# EAGLE library part ADAFRUIT_BNO055 (library Devices)
Adafruit 9-DOF Absolute Orientation IMU Fusion Breakout - BNO055 <https://www.adafruit.com/product/2472#technical-details>
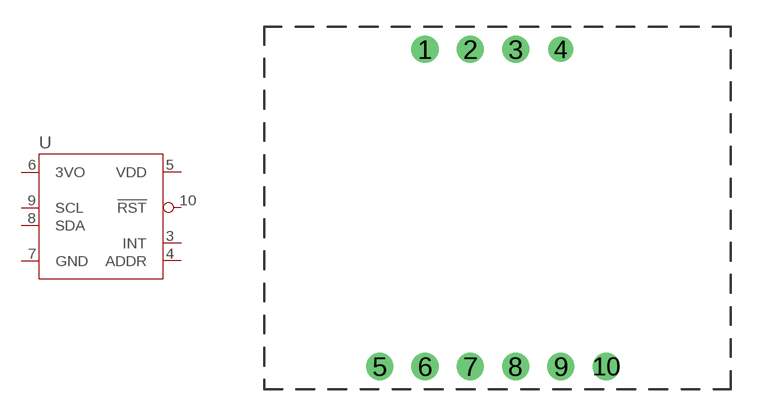
[diagram p2: symbol with the pads of ADAFRUIT_BNO055; footprint ADAFRUIT_BNO055]

Designator prefix U

## ADAFRUIT_BNO055 (MPN: 2472)  [ADAFRUIT_BNO055]
3  INT  out
4  ADDR  in
5  VDD  pwr
6  3VO  pwr
7  GND  pwr
8  SDA
9  SCL
10  !RST  in

## Footprint ADAFRUIT_BNO055 (pad centres in mm)
drill 1.016: 1 -3.81,8.89; 2 -1.27,8.89; 3 1.27,8.89; 5 -6.35,-8.89; 6 -3.81,-8.89; 7 -1.27,-8.89; 8 1.27,-8.89; 9 3.81,-8.89; 10 6.35,-8.89
drill 0.9: 4 3.81,8.89